# Altium footprint library IC_BQ27421YZFR-G1A.PcbLib: 1 footprints
Each footprint in its own frame and in the unit in brackets; x right, y up, seen from the top. Pads: shape width x height; smd on the part's side, far side on the other; paste and mask are expansions set on the pad; w line width, h text height; cw(c..) or ccw(c..) is an arc to the next point about the centre after c.
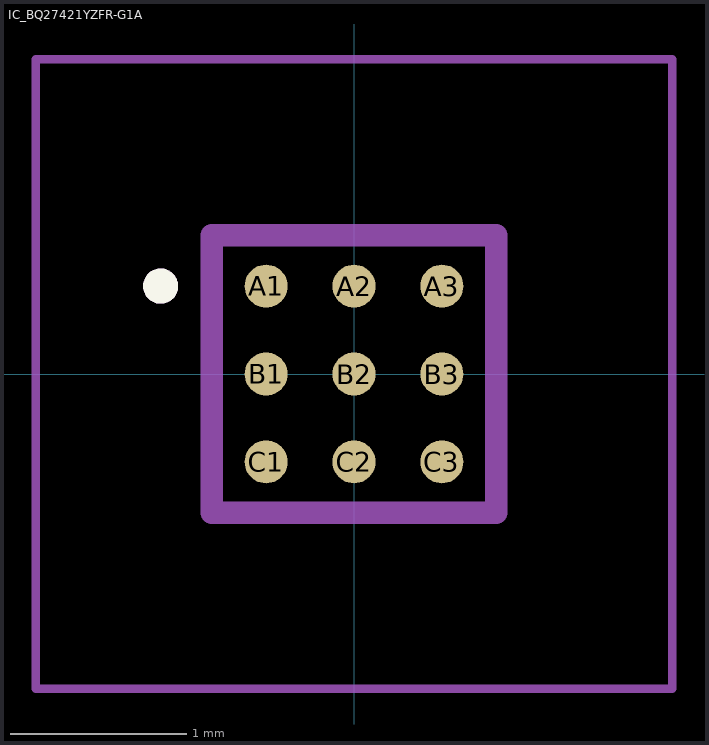
[diagram p0: the footprint, top view; thin cyan lines are the x and y axes]

## IC_BQ27421YZFR-G1A [mm]
pads (9):
  round 0.245 smd paste-1 mask+0.05: A1(-0.5,0.5) A2(0,0.5) A3(0.5,0.5) B1(-0.5,0) B2(0,0) B3(0.5,0) C1(-0.5,-0.5) C2(0,-0.5) C3(0.5,-0.5)
Top Overlay:
  circle w0.1: c-1.1,0.5 r0.05
Top Paste:
  drawing of 9 lines, arcs and shapes, not listed
Assembly Top:
  circle w0.1: c-1.1,0.5 r0.05
  lines w0.127: -0.81,-0.79 -0.81,0.79 0.81,0.79 0.81,-0.79 -0.81,-0.79
Courtyard Top:
  lines w0.05: -1.81,-1.79 1.81,-1.79 1.81,1.79 -1.81,1.79 -1.81,-1.79
3D body "step_temp.STEP": height 0.63, standoff 0, extent -0.81,-0.79 0.81,0.79